# EAGLE library part MCP4552 (library EricB_custom)
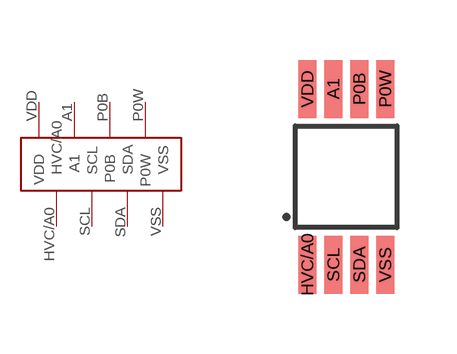
[diagram p19: symbol with the pads of MCP4552; footprint MCP4552]

Designator prefix -

## MCP4552  [MCP4552]
A1  A1
HVC/A0  HVC/A0
P0B  P0B
P0W  P0W
SCL  SCL
SDA  SDA
VDD  VDD
VSS  VSS

## Footprint MCP4552 (pad centres in mm)
smd 0.45 x 1.45: A1 -0.325,2.2; HVC/A0 -0.975,-2.2; P0B 0.325,2.2; P0W 0.975,2.2; SCL -0.325,-2.2; SDA 0.325,-2.2; VDD -0.975,2.2; VSS 0.975,-2.2